# EAGLE library part ULN_2803_KXN (library kxnStandard_IC_Function)
Vin: -0.5V - 30V Vout (COM): 50V (MAX) Iout: 500mA (Max) Package: SOP18
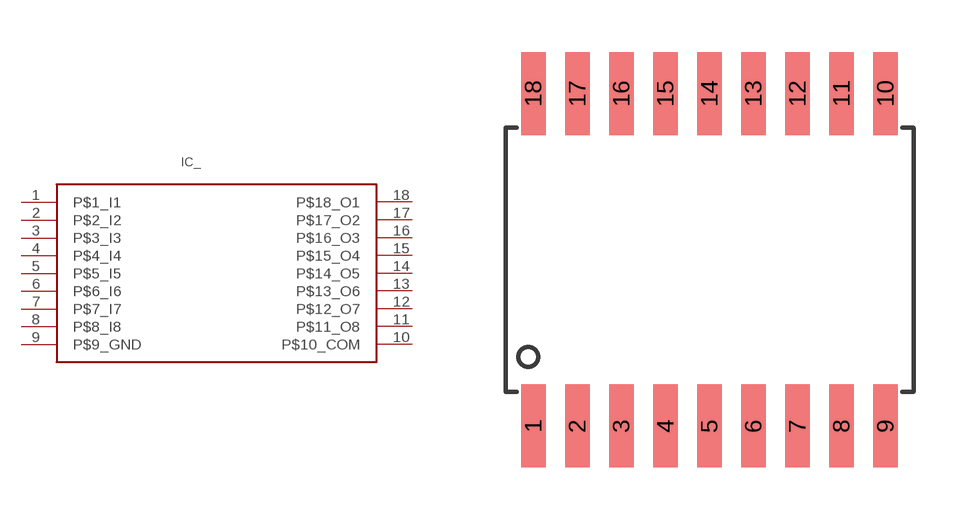
[diagram p12: symbol with the pads of SOIC_18_KXN; footprint SOIC_18_KXN]

Designator prefix IC_

## ULN_2803_KXN_SOIC18_UMW (CC_SHOP: CongCo)  [SOIC_18_KXN]
1  P$1_I1
2  P$2_I2
3  P$3_I3
4  P$4_I4
5  P$5_I5
6  P$6_I6
7  P$7_I7
8  P$8_I8
9  P$9_GND
10  P$10_COM
11  P$11_O8
12  P$12_O7
13  P$13_O6
14  P$14_O5
15  P$15_O4
16  P$16_O3
17  P$17_O2
18  P$18_O1

## Footprint SOIC_18_KXN (pad centres in mm)
smd 0.7 x 2.4: 1 -5.08,-4.8; 2 -3.81,-4.8; 3 -2.54,-4.8; 4 -1.27,-4.8; 5 0,-4.8; 6 1.27,-4.8; 7 2.54,-4.8; 8 3.81,-4.8; 9 5.08,-4.8; 10 5.08,4.8; 11 3.81,4.8; 12 2.54,4.8; 13 1.27,4.8; 14 0,4.8; 15 -1.27,4.8; 16 -2.54,4.8; 17 -3.81,4.8; 18 -5.08,4.8